# Altium footprint library Cuk_3ph_control.PcbLib: 43 footprints (part 1 of 3)
Each footprint in its own frame and in the unit in brackets; x right, y up, seen from the top. Pads: shape width x height; smd on the part's side, far side on the other; paste and mask are expansions set on the pad; w line width, h text height; cw(c..) or ccw(c..) is an arc to the next point about the centre after c.
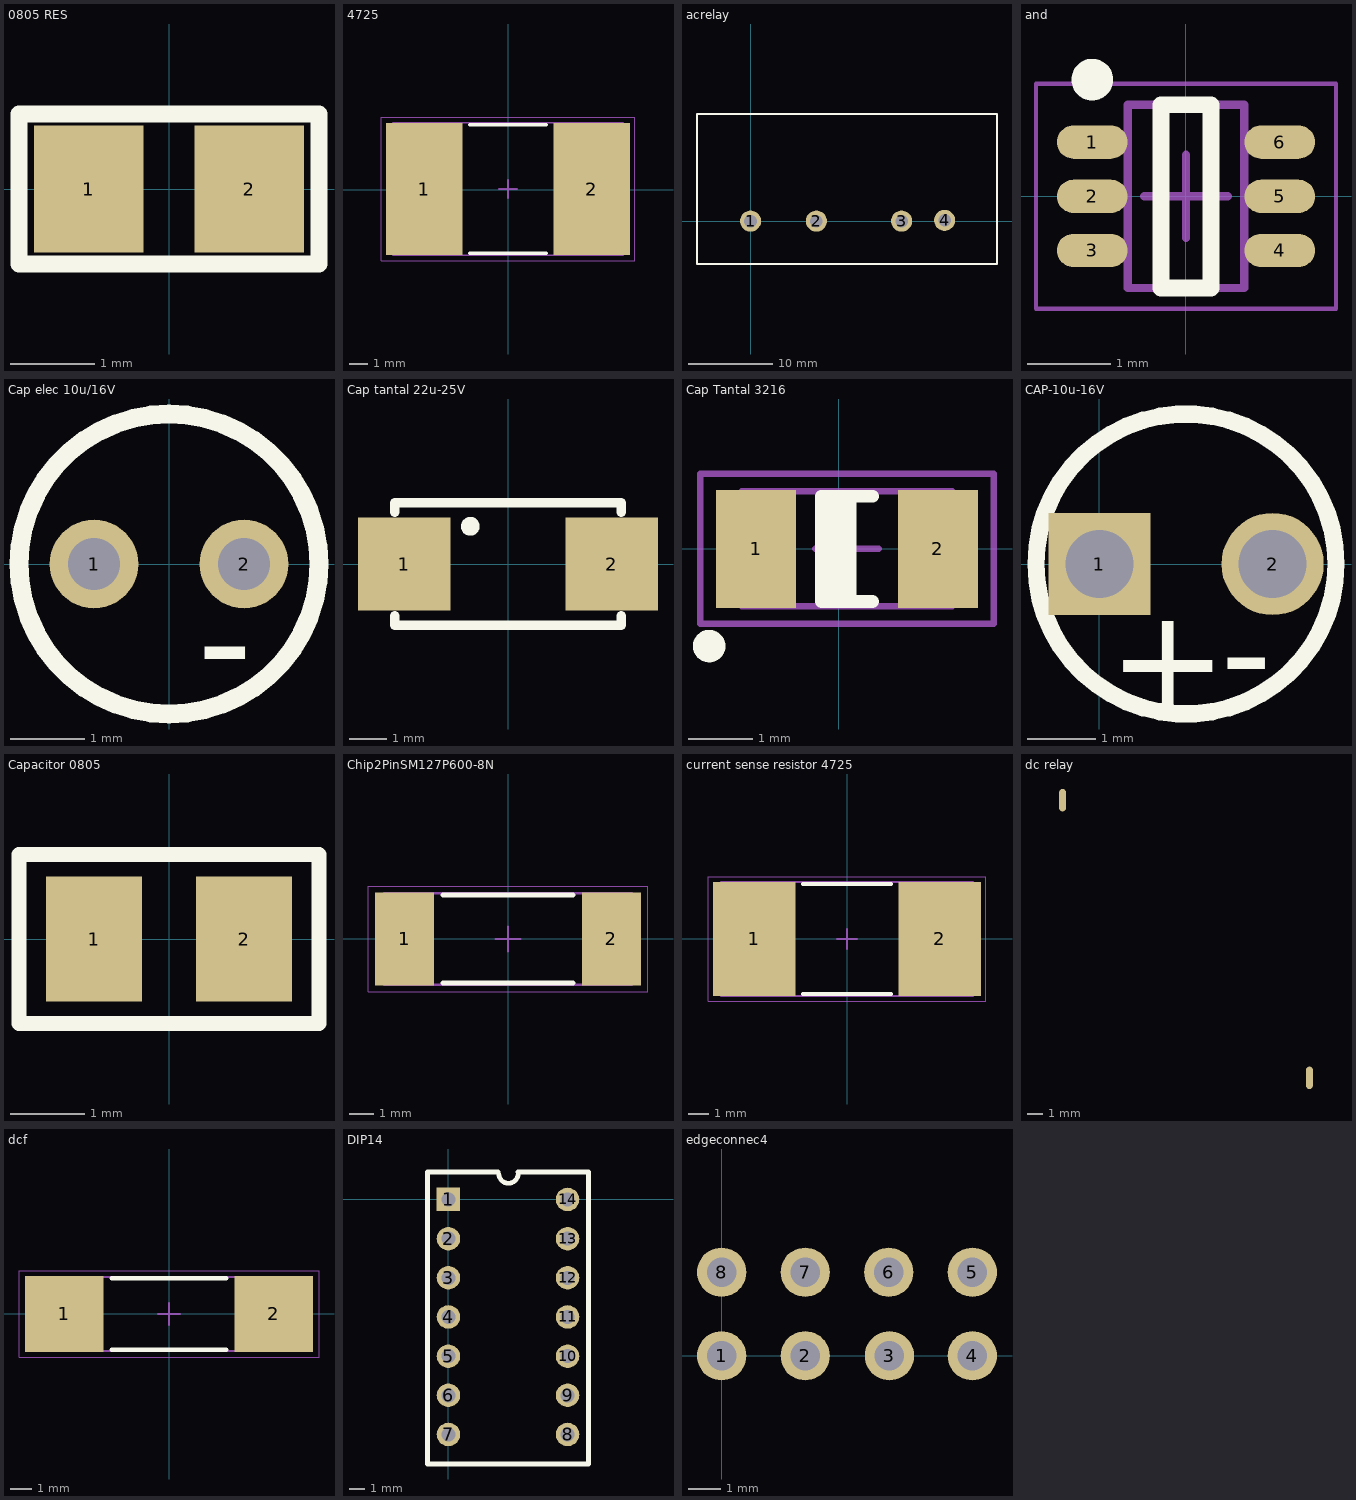
[diagram p0: the footprints below, top view; thin cyan lines are the x and y axes]

## 0805 RES [mm]
pads (2):
  rect 1.3x1.5 smd: 1(-0.95,0) 2(0.95,0)
Top Overlay:
  lines w0.2: -1.778,-0.889 1.778,-0.889 1.778,0.889 -1.778,0.889 -1.778,-0.865

## 4725 [mm] "Chip Resistor, 2-Leads, Body 11.42x6.98mm, IPC Medium Density"
height 2.54
pads (2):
  rect 4.1x7.1 smd: 1(-4.508,0.043) 2(4.492,0.043)
Top Overlay:
  lines w0.2: -2.058,-3.407 2.042,-3.407 ; -2.058,3.493 2.042,3.493
Mechanical 13:
  lines w0.1: -6.193,-3.512 6.177,-3.512 6.177,3.598 -6.193,3.598 -6.193,-3.512
Mechanical 15:
  lines w0.05: -6.808,-3.807 6.792,-3.807 6.792,3.893 -6.808,3.893 -6.808,-3.807
  lines w0.1: -0.508,0.043 0.492,0.043 ; -0.008,-0.457 -0.008,0.543
3D body: height 2.54, standoff 0, extent 3.637,-3.512 6.177,3.598
3D body: height 2.54, standoff 0, extent -6.193,-3.512 -3.653,3.598
3D body: height 2.54, standoff 0, extent -3.653,-3.512 3.637,3.598

## acrelay [mm]
pads (4):
  round 2.5 hole 1.5: 1(0,0) 2(7.8,0) 3(17.9,0) 4(23,0.1)
Top Overlay:
  lines w0.254: -6.35,-5.08 29.21,-5.08 29.21,10.16 29.21,12.7 -6.35,12.7 -6.35,0 -6.35,-5.08

## and [mm] "TSOP, 6-Leads, Body 2.00x1.25mm, Pitch 0.65mm, IPC Medium Density"
height 1.1
pads (6):
  oval 0.85x0.4 smd: 1(-1.125,0.65) 2(-1.125,0) 3(-1.125,-0.65) 4(1.125,-0.65) 5(1.125,0) 6(1.125,0.65)
Top Overlay:
  circle w0.25: c-1.125,1.4 r0.125
  lines w0.2: -0.3,-1.1 -0.3,1.1 0.3,1.1 0.3,-1.1 -0.3,-1.1
Mechanical 13:
  lines w0.1: -0.7,-1.1 -0.7,1.1 0.7,1.1 0.7,-1.1 -0.7,-1.1
Mechanical 15:
  lines w0.05: -1.8,-1.35 -1.8,1.35 1.8,1.35 1.8,-1.35 -1.8,-1.35
  lines w0.1: -0.5,0 0.5,0 ; 0,-0.5 0,0.5
3D body: height 1.1, standoff 0.1, extent -0.7,-1.1 0.7,1.1

## Cap elec 10u/16V [mm]
height 5.3
pads (2):
  round 1.2 hole 0.7: 1(-1.016,0) 2(1.016,0)
Top Overlay:
  circle w0.254: c0,0 r2.032
  text "-" at 0.381,-1.778 h1.52

## Cap tantal 22u-25V [mm]
height 2.6
pads (2):
  rect 2.5x2.5 smd: 1(-2.794,0) 2(2.794,0)
Top Overlay:
  circle w0.254: c-1.016,1.016 r0.127
  lines w0.254: -3.048,-1.397 -3.048,-1.651 3.048,-1.651 3.048,-1.397 ; -3.048,1.397 -3.048,1.651 3.048,1.651 3.048,1.397

## Cap Tantal 3216 [mm]
pads (2):
  rect 1.25x1.85 smd: 1(-1.298,0) 2(1.552,0)
Top Overlay:
  circle w0.254: c-2.032,-1.524 r0.127
  rectangle: -0.273,-0.834 0.277,0.816
  lines w0.2: 0.527,-0.825 -0.273,-0.825 -0.273,0.825 0.527,0.825
Mechanical 13:
  lines w0.1: -1.523,-0.9 1.777,-0.9 1.777,0.9 -1.523,0.9 -1.523,-0.9
Mechanical 15:
  lines w0.1: -0.373,0 0.627,0 ; 0.127,-0.5 0.127,0.5 ; -2.173,-1.175 2.427,-1.175 2.427,1.175 -2.173,1.175 -2.173,-1.175
3D body: height 1.6, standoff 0, extent -1.523,-0.9 1.777,0.9

## CAP-10u-16V [mm]
pads (2):
  rect 1.5x1.5 hole 1: 1(0,0)
  round 1.5 hole 1: 2(2.54,0)
Top Overlay:
  circle w0.254: c1.27,0 r2.2
  text "-" at 1.778,-2.032 h1.52
  text "+" at 0.127,-2.159 h1.52

## Capacitor 0805 [mm]
pads (2):
  rect 1.3x1.7 smd: 1(-1.016,0) 2(1.016,0)
Top Overlay:
  lines w0.2: -2.032,-1.143 -2.032,0 -2.032,1.143 2.032,1.143 2.032,-1.143 -2.032,-1.143

## Chip2PinSM127P600-8N [mm]
height 2.37
pads (2):
  rect 2.4x3.8 smd: 1(-4.225,0) 2(4.225,0)
Top Overlay:
  lines w0.2: -2.65,-1.8 2.65,-1.8 ; -2.65,1.8 2.65,1.8
Mechanical 13:
  lines w0.1: -5.05,-1.875 -5.05,1.875 5.05,1.875 5.05,-1.875 -5.05,-1.875
Mechanical 15:
  lines w0.05: -5.7,-2.15 -5.7,2.15 5.7,2.15 5.7,-2.15 -5.7,-2.15
  lines w0.1: -0.5,0 0.5,0 ; 0,-0.5 0,0.5
3D body: height 2.37, standoff 0, extent -3.05,-1.875 3.05,1.875
3D body: height 2.37, standoff 0, extent -5.05,-1.875 -3.05,1.875
3D body: height 2.37, standoff 0, extent 3.05,-1.875 5.05,1.875

## current sense resistor 4725 [mm] "Chip Resistor, 2-Leads, Body 11.42x5.46mm, IPC Medium Density"
height 2.54
pads (2):
  rect 4.05x5.6 smd: 1(-4.55,0) 2(4.55,0)
Top Overlay:
  lines w0.2: -2.15,-2.7 2.15,-2.7 ; -2.15,2.7 2.15,2.7
Mechanical 13:
  lines w0.1: -6.185,-2.795 6.185,-2.795 6.185,2.795 -6.185,2.795 -6.185,-2.795
Mechanical 15:
  lines w0.05: -6.8,-3.05 6.8,-3.05 6.8,3.05 -6.8,3.05 -6.8,-3.05
  lines w0.1: -0.5,0 0.5,0 ; 0,-0.5 0,0.5
3D body: height 2.54, standoff 0, extent 3.645,-2.795 6.185,2.795
3D body: height 2.54, standoff 0, extent -6.185,-2.795 -3.645,2.795
3D body: height 2.54, standoff 0, extent -3.645,-2.795 3.645,2.795

## dc relay [mm]
pads (6):
  oval 0.45x1.45 all layers, no hole: 25(-166,-84) 26(-150,-102) 27(-150,-102) 28(-150,-102) 29(-150,-102) 30(-150,-102)

## dcf [mm]
height 2.37
pads (2):
  rect 3.65x3.5 smd: 1(-4.85,0) 2(4.85,0)
Top Overlay:
  lines w0.2: -2.65,-1.65 2.65,-1.65 ; -2.65,1.65 2.65,1.65
Mechanical 13:
  lines w0.1: -6.3,-1.715 6.3,-1.715 6.3,1.715 -6.3,1.715 -6.3,-1.715
Mechanical 15:
  lines w0.05: -6.95,-2 6.95,-2 6.95,2 -6.95,2 -6.95,-2
  lines w0.1: -0.5,0 0.5,0 ; 0,-0.5 0,0.5
3D body: height 2.37, standoff 0, extent 3.05,-1.715 6.3,1.715
3D body: height 2.37, standoff 0, extent -6.3,-1.715 -3.05,1.715
3D body: height 2.37, standoff 0, extent -3.05,-1.715 3.05,1.715

## dcfuse [mm]

## DIP14 [mm]
pads (14):
  rect 1.5x1.5 hole 0.9: 1(0,0)
  round 1.5 hole 0.9: 2(0,-2.5) 3(0,-5) 4(0,-7.5) 5(0,-10) 6(0,-12.5) 7(0,-15) 8(7.6,-15) 9(7.6,-12.5) 10(7.6,-10) 11(7.6,-7.5) 12(7.6,-5) 13(7.6,-2.5) 14(7.6,0)
Top Overlay:
  lines w0.3: 3.175,1.758 -1.34,1.758 -1.34,-16.885 8.94,-16.885 8.94,1.758 4.425,1.758 ; 3.215,1.651 ccw(c3.83,1.651) 4.445,1.651

## edgeconnec4 [mm]
pads (8):
  round 1.5 hole 0.9: 1(0,0) 2(2.54,0) 3(5.1,0) 4(7.62,0) 5(7.62,2.54) 6(5.08,2.54) 7(2.54,2.54) 8(0,2.54)